# EAGLE library part LT_LT3045_DFN (library Gyro-Test_2)
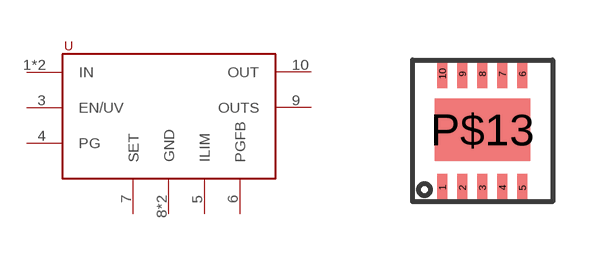
[diagram p0: symbol with the pads of LT_DD_DFN10; footprint LT_DD_DFN10]

Designator prefix -

## LT_LT3045_DFN  [LT_DD_DFN10]
1  IN
2  IN
3  EN/UV
4  PG
5  ILIM
6  PGFB
7  SET
8  GND
9  OUTS
10  OUT
P$13  GND

## Footprint LT_DD_DFN10 (pad centres in mm)
smd 0.25 x 0.7: 1 0,-2.85; 2 0.5,-2.85; 3 1,-2.85; 4 1.5,-2.85; 5 2,-2.85; 6 2,0; 7 1.5,0; 8 1,0; 9 0.5,0; 10 0,0
smd 2.38 x 1.56: P$13 1,-1.4